# Altium footprint library Titan_PcbLib1.PcbLib: 4 footprints
Each footprint in its own frame and in the unit in brackets; x right, y up, seen from the top. Pads: shape width x height; smd on the part's side, far side on the other; paste and mask are expansions set on the pad; w line width, h text height; cw(c..) or ccw(c..) is an arc to the next point about the centre after c.
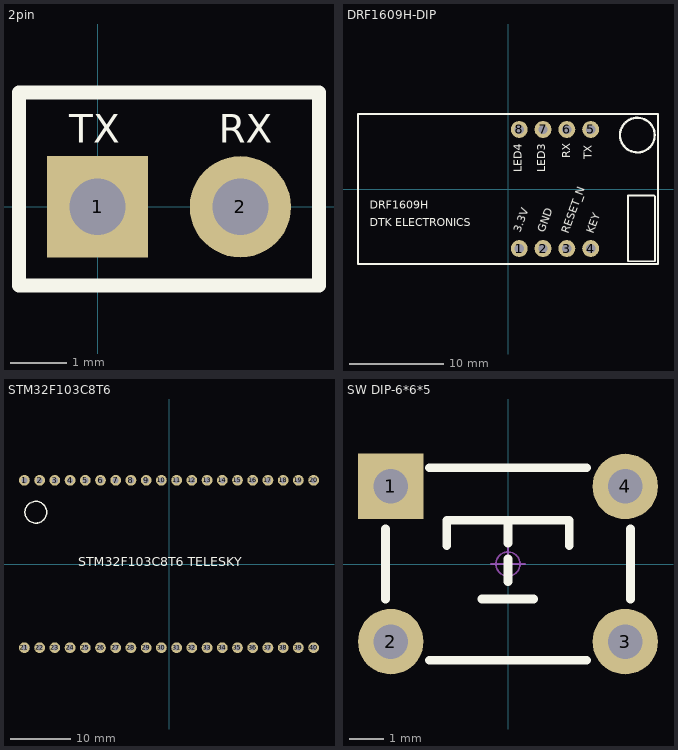
[diagram p0: the footprints below, top view; thin cyan lines are the x and y axes]

## 2pin [mm]
pads (2):
  rect 1.8x1.8 hole 1 paste+0: 1(0,0)
  round 1.8 hole 1 paste+0: 2(2.54,0)
Top Overlay:
  lines w0.254: -1.397,-1.397 3.937,-1.397 3.937,2.032 -1.397,2.032 -1.397,-1.397
  text "RX" at 2.159,1.143 h0.51
  text "TX" at -0.508,1.143 h0.51

## DRF1609H-DIP [mm]
height 3
pads (8):
  round 1.8 hole 1: 1(1.2,-6.35) 2(3.74,-6.35) 3(6.28,-6.35) 4(8.82,-6.35) 5(8.82,6.35) 6(6.28,6.35) 7(3.74,6.35) 8(1.2,6.35)
Top Overlay:
  circle w0.25: c13.799,5.75 r1.851
  lines w0.2: -0.25,8 -7.65,8 -12.75,8 -16,8 -16,-8 -2.7,-8 0.175,-8 10.325,-8 ; -0.2,8 10.25,8 16,8 16,-8 10.25,-8 ; 12.8,-0.8 12.8,-7.7 15.7,-7.7 15.7,-0.8 ; 12.8,-0.7 15.6,-0.7
  text "LED4" at 1.778,1.778 h1.5
  text "LED3" at 4.318,1.778 h1.5
  text "RX" at 6.985,3.302 h1.5
  text "TX" at 9.271,3.175 h1.5
  text "KEY" at 9.398,-4.953 h1.5
  text "RESET_N" at 6.731,-4.953 h1.5
  text "GND" at 4.191,-4.826 h1.5
  text "3.3V" at 1.651,-4.826 h1.5
  text "DRF1609H" at -14.732,-2.413 h1.5
  text "DTK ELECTRONICS" at -14.732,-4.318 h1.5

## STM32F103C8T6 [mm] "telesky家的STM32F103C8T6"
pads (40):
  round 1.8 hole 1: 1(-24.13,13.97) 2(-21.59,13.97) 3(-19.05,13.97) 4(-16.51,13.97) 5(-13.97,13.97) 6(-11.43,13.97) 7(-8.89,13.97) 8(-6.35,13.97) 9(-3.81,13.97) 10(-1.27,13.97) 11(1.27,13.97) 12(3.81,13.97) 13(6.35,13.97) 14(8.89,13.97) 15(11.43,13.97) 16(13.97,13.97) 17(16.51,13.97) 18(19.05,13.97) 19(21.59,13.97) 20(24.13,13.97) 21(-24.13,-13.97) 22(-21.59,-13.97) 23(-19.05,-13.97) 24(-16.51,-13.97) 25(-13.97,-13.97) 26(-11.43,-13.97) 27(-8.89,-13.97) 28(-6.35,-13.97) 29(-3.81,-13.97) 30(-1.27,-13.97) 31(1.27,-13.97) 32(3.81,-13.97) 33(6.35,-13.97) 34(8.89,-13.97) 35(11.43,-13.97) 36(13.97,-13.97) 37(16.51,-13.97) 38(19.05,-13.97) 39(21.59,-13.97) 40(24.13,-13.97)
Top Overlay:
  circle w0.254: c-22.225,8.636 r1.818
  text "STM32F103C8T6 TELESKY" at -15.113,-0.381 h1.52

## SW DIP-6*6*5 [mm] "6*6*5mm"
pads (4):
  rect 1.9x1.9 hole 1: 1(-3.4,2.25)
  round 1.9 hole 1: 2(-3.4,-2.25) 3(3.4,-2.25) 4(3.4,2.25)
Top Overlay:
  lines w0.254: -3.556,-1.016 -3.556,1.016 ; -2.286,-2.794 2.286,-2.794 ; -2.286,2.794 2.286,2.794 ; -1.778,0.533 -1.778,1.27 1.778,1.27 1.778,0.533 ; -0.762,-1.016 0.737,-1.016 ; 0,-0.508 0,0.152 ; 0,0.61 0,1.27 ; 3.556,-1.016 3.556,1.016
Bottom Overlay:
  lines w0.254: -2.286,-2.286 2.286,-2.286 ; -2.286,2.286 2.286,2.286
Mechanical 15:
  circle w0.05: c0,0 r0.35
  lines w0.05: -0.5,0 0.5,0 ; 0,-0.5 0,0.5
3D body "TSW_DIP-6x6x5.STEP": height 4.95, standoff -3.45, extent -4.106,-3 4.106,3